# Altium footprint library LQFP-208.PcbLib: 1 footprints
Each footprint in its own frame and in the unit in brackets; x right, y up, seen from the top. Pads: shape width x height; smd on the part's side, far side on the other; paste and mask are expansions set on the pad; w line width, h text height; cw(c..) or ccw(c..) is an arc to the next point about the centre after c.
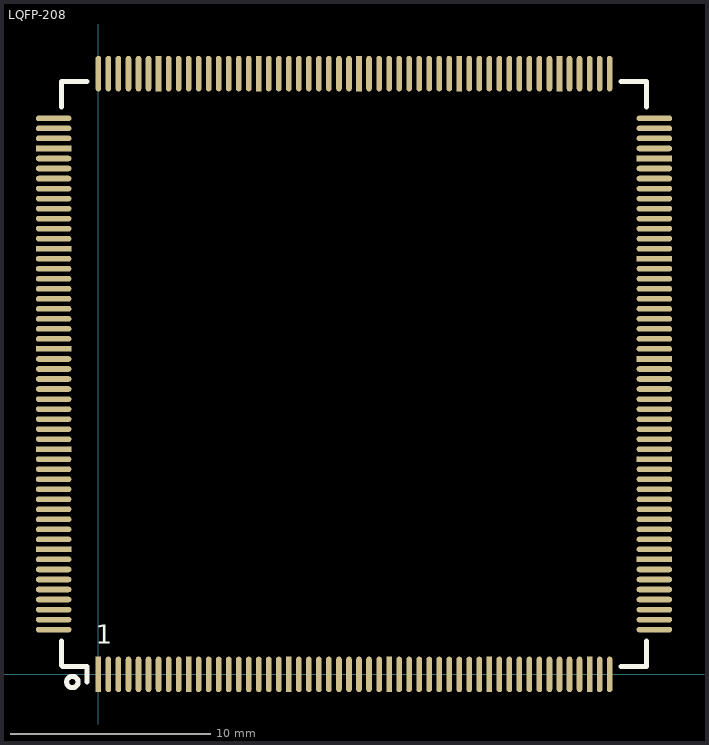
[diagram p0: the footprint, top view; thin cyan lines are the x and y axes]

## LQFP-208 [mil]
height 1.6
pads (208):
  rect 11x70 smd: 1(0,0) 10(177.3,0) 20(374.3,0) 30(571.3,0) 40(768.3,0) 50(965.3,0) 110(906.2,1180.7) 120(709.2,1180.7) 130(512.2,1180.7) 140(315.2,1180.7) 150(118.2,1180.7)
  oval 11x70 smd: 2(19.7,0) 3(39.4,0) 4(59.1,0) 5(78.8,0) 6(98.5,0) 7(118.2,0) 8(137.9,0) 9(157.6,0) 11(197,0) 12(216.7,0) 13(236.4,0) 14(256.1,0) 15(275.8,0) 16(295.5,0) 17(315.2,0) 18(334.9,0) 19(354.6,0) 21(394,0) 22(413.7,0) 23(433.4,0) 24(453.1,0) 25(472.8,0) 26(492.5,0) 27(512.2,0) 28(531.9,0) 29(551.6,0) 31(591,0) 32(610.7,0) 33(630.4,0) 34(650.1,0) 35(669.8,0) 36(689.5,0) 37(709.2,0) 38(728.9,0) 39(748.6,0) 41(788,0) 42(807.7,0) 43(827.4,0) 44(847.1,0) 45(866.8,0) 46(886.5,0) 47(906.2,0) 48(925.9,0) 49(945.6,0) 51(985,0) 52(1004.7,0) 105(1004.7,1180.7) 106(985,1180.7) 107(965.3,1180.7) 108(945.6,1180.7) 109(925.9,1180.7) 111(886.5,1180.7) 112(866.8,1180.7) 113(847.1,1180.7) 114(827.4,1180.7) 115(807.7,1180.7) 116(788,1180.7) 117(768.3,1180.7) 118(748.6,1180.7) 119(728.9,1180.7) 121(689.5,1180.7) 122(669.8,1180.7) 123(650.1,1180.7) 124(630.4,1180.7) 125(610.7,1180.7) 126(591,1180.7) 127(571.3,1180.7) 128(551.6,1180.7) 129(531.9,1180.7) 131(492.5,1180.7) 132(472.8,1180.7) 133(453.1,1180.7) 134(433.4,1180.7) 135(413.7,1180.7) 136(394,1180.7) 137(374.3,1180.7) 138(354.6,1180.7) 139(334.9,1180.7) 141(295.5,1180.7) 142(275.8,1180.7) 143(256.1,1180.7) 144(236.4,1180.7) 145(216.7,1180.7) 146(197,1180.7) 147(177.3,1180.7) 148(157.6,1180.7) 149(137.9,1180.7) 151(98.5,1180.7) 152(78.8,1180.7) 153(59.1,1180.7) 154(39.4,1180.7) 155(19.7,1180.7) 156(0,1180.7)
  oval 70x11 smd: 53(1092.7,88) 54(1092.7,107.7) 55(1092.7,127.4) 56(1092.7,147.1) 57(1092.7,166.8) 58(1092.7,186.5) 59(1092.7,206.2) 61(1092.7,245.6) 62(1092.7,265.3) 63(1092.7,285) 64(1092.7,304.7) 65(1092.7,324.4) 66(1092.7,344.1) 67(1092.7,363.8) 68(1092.7,383.5) 69(1092.7,403.2) 71(1092.7,442.6) 72(1092.7,462.3) 73(1092.7,482) 74(1092.7,501.7) 75(1092.7,521.4) 76(1092.7,541.1) 77(1092.7,560.8) 78(1092.7,580.5) 79(1092.7,600.2) 81(1092.7,639.6) 82(1092.7,659.3) 83(1092.7,679) 84(1092.7,698.7) 85(1092.7,718.4) 86(1092.7,738.1) 87(1092.7,757.8) 88(1092.7,777.5) 89(1092.7,797.2) 91(1092.7,836.6) 92(1092.7,856.3) 93(1092.7,876) 94(1092.7,895.7) 95(1092.7,915.4) 96(1092.7,935.1) 97(1092.7,954.8) 98(1092.7,974.5) 99(1092.7,994.2) 101(1092.7,1033.6) 102(1092.7,1053.3) 103(1092.7,1073) 104(1092.7,1092.7) 157(-88,1092.7) 158(-88,1073) 159(-88,1053.3) 161(-88,1013.9) 162(-88,994.2) 163(-88,974.5) 164(-88,954.8) 165(-88,935.1) 166(-88,915.4) 167(-88,895.7) 168(-88,876) 169(-88,856.3) 171(-88,816.9) 172(-88,797.2) 173(-88,777.5) 174(-88,757.8) 175(-88,738.1) 176(-88,718.4) 177(-88,698.7) 178(-88,679) 179(-88,659.3) 181(-88,619.9) 182(-88,600.2) 183(-88,580.5) 184(-88,560.8) 185(-88,541.1) 186(-88,521.4) 187(-88,501.7) 188(-88,482) 189(-88,462.3) 191(-88,422.9) 192(-88,403.2) 193(-88,383.5) 194(-88,363.8) 195(-88,344.1) 196(-88,324.4) 197(-88,304.7) 198(-88,285) 199(-88,265.3) 201(-88,225.9) 202(-88,206.2) 203(-88,186.5) 204(-88,166.8) 205(-88,147.1) 206(-88,127.4) 207(-88,107.7) 208(-88,88)
  rect 70x11 smd: 60(1092.7,225.9) 70(1092.7,422.9) 80(1092.7,619.9) 90(1092.7,816.9) 100(1092.7,1013.9) 160(-88,1033.6) 170(-88,836.6) 180(-88,639.6) 190(-88,442.6) 200(-88,245.6)
Top Overlay:
  circle w10: c-51.18,-15 r11.18
  lines w10: -72.7,65.3 -72.7,17.7 -70.3,15.3 -22.7,15.3 -22.7,-14.7 ; -72.7,1115.3 -72.7,1165.3 -22.7,1165.3 ; 1027.3,15.3 1077.3,15.3 1077.3,65.3 ; 1027.3,1165.3 1077.3,1165.3 1077.3,1115.3
  text "1" at -5,60 h37.5
3D body: height 66.93, standoff -0.41, extent -89.36,0.64 1091.74,1181.74